# Altium integrated library ST Video VCR Circuit.IntLib: 1 symbol
Pins are listed as number, name and electrical type; pins without a type are passive.

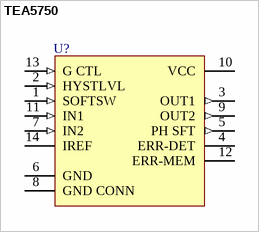
[diagram p0: symbol TEA5750]

## TEA5750
designator U?
Active Sideband Optimization; Note: Pin number 8 is to be connected to GND.; Published: 24-Aug-2001; LatestRevisionDate: 6-Jun-2005; LatestRevisionNote: Stylized 3D Model Added.; DatasheetDocument: Feb-1993; PackageDocument: Sep-1998; PackageReference: SO14; Publisher: Altium Limited; ComponentLink1Description: Manufacturer Link; ComponentLink1URL: http://www.st.com/
footprint SO14 (Small Outline; 14 Leads; Body Width 3.9 mm; Pitch 1.27 mm)
3D model SO14 (Small Outline; 14 Leads; Body Width 3.9 mm; Pitch 1.27 mm)
pins: 1 SOFTSW (in), 2 HYSTLVL (in), 3 OUT1 (out), 4 ERR-DET, 5 PH SFT (out), 6 GND (power), 7 IN2 (in), 8 GND CONN, 9 OUT2 (out), 10 VCC (power), 11 IN1 (in), 12 ERR-MEM, 13 G CTL (in), 14 IREF